# Altium integrated library NSC Amplifier.IntLib: 1615 symbols (part 6 of 44)
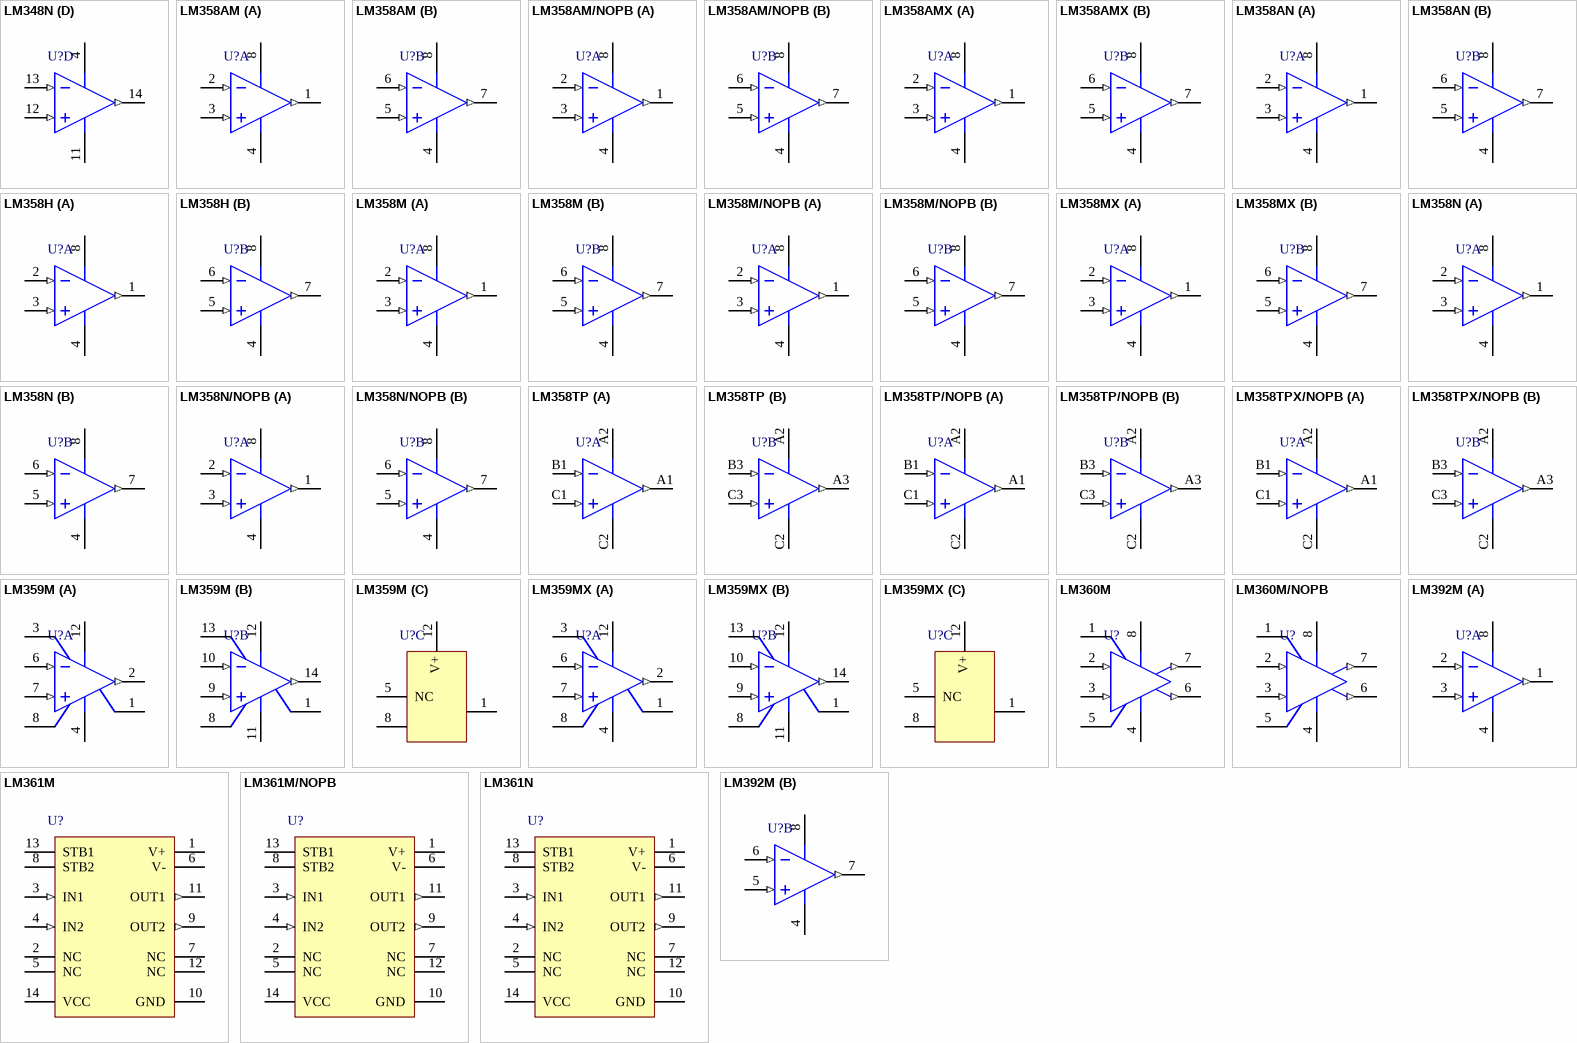
[diagram p87: symbols LM348N to LM392M]

## LM358AM/NOPB
designator U?
Low Power Dual Operational Amplifier, 8-pin Narrow SOIC, Pb-Free; PartNumber: LM358AM/NOPB; Manufacturer: National Semiconductor; PackageTopMarking: NSZXTT*LM*358AM; PowerWise: N; CompType: Amplifiers; Published: 1-Mar-2010; DatasheetVersion: Oct-2005; PackageVersion: revM, May-2009; PackageReference: M08A; Publisher: Altium Limited; PackageDescription: SOIC Narrow, 4.9 x 3.9 x 1.45mm, 8 Lead, 1.27mm Pitch; Supplier 1: Digi-Key; Supplier Part Number 1: LM358AMNS-ND; Supplier 2: Farnell; Supplier Part Number 2: 1202979; RoHS: Y; PinCount: 8; Code_JEDEC: MS-012-AA; Code_IPC: SOIC127P600-8; ComponentLink1Description: LM358 Datasheet; ComponentLink1URL: http://www.national.com/ds/LM/LM358.pdf; ComponentLink2Description: LM358 Web Page; ComponentLink2URL: http://www.national.com/pf/LM/LM358.html; ComponentLink3Description: M08A Package Page; ComponentLink3URL: http://www.national.com/packaging/folders/m08a.html
footprint M08A_N (SOIC, 8-Leads, Body 4.9x3.9mm, Pitch 1.27mm, IPC Medium Density)
footprint M08A_L (SOIC, 8-Leads, Body 4.9x3.9mm, Pitch 1.27mm, IPC High Density)
footprint M08A_M (SOIC, 8-Leads, Body 4.9x3.9mm, Pitch 1.27mm, IPC Low Density)
simulation model LM358 (SUBCKT)
pins on every part: 4 GND (power), 8 V+ (power)
part A pins: 1 OUTA (out), 2 INA- (in), 3 INA+ (in)
part B pins: 5 INB+ (in), 6 INB- (in), 7 OUTB (out)

## LM358AMX
designator U?
Low Power Dual Operational Amplifier, 8-pin Narrow SOIC; PartNumber: LM358AMX; Manufacturer: National Semiconductor; PackageTopMarking: NSZXTT*LM*358AM; PowerWise: N; CompType: Amplifiers; Published: 1-Mar-2010; DatasheetVersion: Oct-2005; PackageVersion: revM, May-2009; PackageReference: M08A; Publisher: Altium Limited; PackageDescription: SOIC Narrow, 4.9 x 3.9 x 1.45mm, 8 Lead, 1.27mm Pitch; RoHS: N; PinCount: 8; Code_JEDEC: MS-012-AA; Code_IPC: SOIC127P600-8; ComponentLink1Description: LM358 Datasheet; ComponentLink1URL: http://www.national.com/ds/LM/LM358.pdf; ComponentLink2Description: LM358 Web Page; ComponentLink2URL: http://www.national.com/pf/LM/LM358.html; ComponentLink3Description: M08A Package Page; ComponentLink3URL: http://www.national.com/packaging/folders/m08a.html
footprint M08A_N (SOIC, 8-Leads, Body 4.9x3.9mm, Pitch 1.27mm, IPC Medium Density)
footprint M08A_L (SOIC, 8-Leads, Body 4.9x3.9mm, Pitch 1.27mm, IPC High Density)
footprint M08A_M (SOIC, 8-Leads, Body 4.9x3.9mm, Pitch 1.27mm, IPC Low Density)
simulation model LM358 (SUBCKT)
pins on every part: 4 GND (power), 8 V+ (power)
part A pins: 1 OUTA (out), 2 INA- (in), 3 INA+ (in)
part B pins: 5 INB+ (in), 6 INB- (in), 7 OUTB (out)

## LM358AN
designator U?
Low Power Dual Operational Amplifier, 8-pin MDIP; PartNumber: LM358AN; Manufacturer: National Semiconductor; PackageTopMarking: NSUZXYTTE#*LM*358AN; PowerWise: N; CompType: Amplifiers; Published: 4-Dec-2008; LatestRevisionDate: 13-Jan-2009; LatestRevisionNote: Sim Model Added.; DatasheetVersion: Oct-2005; PackageVersion: revG, May-2006; PackageReference: N08E; Publisher: Altium Limited; PackageDescription: MDIP, .365 x .250 x .130in, 8 Lead, .100in Pitch; Supplier 1: Farnell; Supplier Part Number 1: 9486810; RoHS: N; PinCount: 8; Code_JEDEC: MS-001-BA; ComponentLink1Description: LM358 Datasheet; ComponentLink1URL: http://www.national.com/ds/LM/LM358.pdf; ComponentLink2Description: LM358 Web Page; ComponentLink2URL: http://www.national.com/pf/LM/LM358.html; ComponentLink3Description: N08E Package Page; ComponentLink3URL: http://www.national.com/packaging/folders/n08e.html
footprint N08E (DIP, 8-Leads, Row Spacing 7.62mm, Pitch 2.54mm, Body 9.91x6.35mm)
simulation model LM358 (SUBCKT)
pins on every part: 4 GND (power), 8 V+ (power)
part A pins: 1 OUTA (out), 2 INA- (in), 3 INA+ (in)
part B pins: 5 INB+ (in), 6 INB- (in), 7 OUTB (out)

## LM358H
designator U?
Low Power Dual Operational Amplifier, 8-pin TO-99; PartNumber: LM358H; Manufacturer: National Semiconductor; PackageTopMarking: NSZXYTTE# LM358H; PowerWise: N; CompType: Amplifiers; High-Reliability: Y; Published: 4-Dec-2008; DatasheetVersion: Oct-2005; PackageVersion: revF, Jun-1995; PackageReference: H08C; Publisher: Altium Limited; PackageDescription: Metal Can, TO-99, 8 Lead, .200 Dia., P.C.; Supplier 1: Farnell; Supplier Part Number 1: 399553; RoHS: N; PinCount: 8; Code_JEDEC: TO-99; ComponentLink1Description: LM358 Datasheet; ComponentLink1URL: http://www.national.com/ds/LM/LM358.pdf; ComponentLink2Description: LM358 Web Page; ComponentLink2URL: http://www.national.com/pf/LM/LM358.html; ComponentLink3Description: H08C Package Page; ComponentLink3URL: http://www.national.com/packaging/folders/h08c.html
footprint H08C (Can; 8 Leads; Pin Circle Dia. 5.08 mm; Lead Dia. 0.48 mm (max))
simulation model LM358 (SUBCKT)
pins on every part: 4 GND (power), 8 V+ (power)
part A pins: 1 OUTA (out), 2 INA- (in), 3 INA+ (in)
part B pins: 5 INB+ (in), 6 INB- (in), 7 OUTB (out)

## LM358M
designator U?
Low Power Dual Operational Amplifier, 8-pin Narrow SOIC; PartNumber: LM358M; Manufacturer: National Semiconductor; PackageTopMarking: NSZXTT*LM*358M; PowerWise: N; CompType: Amplifiers; Published: 4-Dec-2008; LatestRevisionDate: 13-Jan-2009; LatestRevisionNote: Sim Model Added.; DatasheetVersion: Oct-2005; PackageVersion: revM, May-2009; PackageReference: M08A; Publisher: Altium Limited; PackageDescription: SOIC Narrow, 4.9 x 3.9 x 1.45mm, 8 Lead, 1.27mm Pitch; Supplier 1: Farnell; Supplier Part Number 1: 9486828; RoHS: N; PinCount: 8; Code_JEDEC: MS-012-AA; Code_IPC: SOIC127P600-8; ComponentLink1Description: LM358 Datasheet; ComponentLink1URL: http://www.national.com/ds/LM/LM358.pdf; ComponentLink2Description: LM358 Web Page; ComponentLink2URL: http://www.national.com/pf/LM/LM358.html; ComponentLink3Description: M08A Package Page; ComponentLink3URL: http://www.national.com/packaging/folders/m08a.html
footprint M08A_N (SOIC, 8-Leads, Body 4.9x3.9mm, Pitch 1.27mm, IPC Medium Density)
footprint M08A_L (SOIC, 8-Leads, Body 4.9x3.9mm, Pitch 1.27mm, IPC High Density)
footprint M08A_M (SOIC, 8-Leads, Body 4.9x3.9mm, Pitch 1.27mm, IPC Low Density)
simulation model LM358 (SUBCKT)
pins on every part: 4 GND (power), 8 V+ (power)
part A pins: 1 OUTA (out), 2 INA- (in), 3 INA+ (in)
part B pins: 5 INB+ (in), 6 INB- (in), 7 OUTB (out)

## LM358M/NOPB
designator U?
Low Power Dual Operational Amplifier, 8-pin Narrow SOIC, Pb-Free; PartNumber: LM358M/NOPB; Manufacturer: National Semiconductor; PackageTopMarking: NSZXTT*LM*358M; PowerWise: N; CompType: Amplifiers; Published: 1-Mar-2010; DatasheetVersion: Oct-2005; PackageVersion: revM, May-2009; PackageReference: M08A; Publisher: Altium Limited; PackageDescription: SOIC Narrow, 4.9 x 3.9 x 1.45mm, 8 Lead, 1.27mm Pitch; Supplier 1: Digi-Key; Supplier Part Number 1: LM358MNS-ND; Supplier 2: Farnell; Supplier Part Number 2: 1468920; RoHS: Y; PinCount: 8; Code_JEDEC: MS-012-AA; Code_IPC: SOIC127P600-8; ComponentLink1Description: LM358 Datasheet; ComponentLink1URL: http://www.national.com/ds/LM/LM358.pdf; ComponentLink2Description: LM358 Web Page; ComponentLink2URL: http://www.national.com/pf/LM/LM358.html; ComponentLink3Description: M08A Package Page; ComponentLink3URL: http://www.national.com/packaging/folders/m08a.html
footprint M08A_N (SOIC, 8-Leads, Body 4.9x3.9mm, Pitch 1.27mm, IPC Medium Density)
footprint M08A_L (SOIC, 8-Leads, Body 4.9x3.9mm, Pitch 1.27mm, IPC High Density)
footprint M08A_M (SOIC, 8-Leads, Body 4.9x3.9mm, Pitch 1.27mm, IPC Low Density)
simulation model LM358 (SUBCKT)
pins on every part: 4 GND (power), 8 V+ (power)
part A pins: 1 OUTA (out), 2 INA- (in), 3 INA+ (in)
part B pins: 5 INB+ (in), 6 INB- (in), 7 OUTB (out)

## LM358MX
designator U?
Low Power Dual Operational Amplifier, 8-pin Narrow SOIC; PartNumber: LM358MX; Manufacturer: National Semiconductor; PackageTopMarking: NSZXTT*LM*358M; PowerWise: N; CompType: Amplifiers; Published: 1-Mar-2010; DatasheetVersion: Oct-2005; PackageVersion: revM, May-2009; PackageReference: M08A; Publisher: Altium Limited; PackageDescription: SOIC Narrow, 4.9 x 3.9 x 1.45mm, 8 Lead, 1.27mm Pitch; RoHS: N; PinCount: 8; Code_JEDEC: MS-012-AA; Code_IPC: SOIC127P600-8; ComponentLink1Description: LM358 Datasheet; ComponentLink1URL: http://www.national.com/ds/LM/LM358.pdf; ComponentLink2Description: LM358 Web Page; ComponentLink2URL: http://www.national.com/pf/LM/LM358.html; ComponentLink3Description: M08A Package Page; ComponentLink3URL: http://www.national.com/packaging/folders/m08a.html
footprint M08A_N (SOIC, 8-Leads, Body 4.9x3.9mm, Pitch 1.27mm, IPC Medium Density)
footprint M08A_L (SOIC, 8-Leads, Body 4.9x3.9mm, Pitch 1.27mm, IPC High Density)
footprint M08A_M (SOIC, 8-Leads, Body 4.9x3.9mm, Pitch 1.27mm, IPC Low Density)
simulation model LM358 (SUBCKT)
pins on every part: 4 GND (power), 8 V+ (power)
part A pins: 1 OUTA (out), 2 INA- (in), 3 INA+ (in)
part B pins: 5 INB+ (in), 6 INB- (in), 7 OUTB (out)

## LM358N
designator U?
Low Power Dual Operational Amplifier, 8-pin MDIP; PartNumber: LM358N; Manufacturer: National Semiconductor; PackageTopMarking: NSUZXYTTE#*LM*358N; PowerWise: N; CompType: Amplifiers; Published: 4-Dec-2008; LatestRevisionDate: 13-Jan-2009; LatestRevisionNote: Sim Model Added.; DatasheetVersion: Oct-2005; PackageVersion: revG, May-2006; PackageReference: N08E; Publisher: Altium Limited; PackageDescription: MDIP, .365 x .250 x .130in, 8 Lead, .100in Pitch; Supplier 1: Farnell; Supplier Part Number 1: 9486836; Supplier 2: Farnell; Supplier Part Number 2: 1523834; RoHS: N; PinCount: 8; Code_JEDEC: MS-001-BA; ComponentLink1Description: LM358 Datasheet; ComponentLink1URL: http://www.national.com/ds/LM/LM358.pdf; ComponentLink2Description: LM358 Web Page; ComponentLink2URL: http://www.national.com/pf/LM/LM358.html; ComponentLink3Description: N08E Package Page; ComponentLink3URL: http://www.national.com/packaging/folders/n08e.html
footprint N08E (DIP, 8-Leads, Row Spacing 7.62mm, Pitch 2.54mm, Body 9.91x6.35mm)
simulation model LM358 (SUBCKT)
pins on every part: 4 GND (power), 8 V+ (power)
part A pins: 1 OUTA (out), 2 INA- (in), 3 INA+ (in)
part B pins: 5 INB+ (in), 6 INB- (in), 7 OUTB (out)

## LM358N/NOPB
designator U?
Low Power Dual Operational Amplifier, 8-pin MDIP, Pb-Free; PartNumber: LM358N/NOPB; Manufacturer: National Semiconductor; PackageTopMarking: NSUZXYTTE#*LM*358N; PowerWise: N; CompType: Amplifiers; Published: 1-Mar-2010; DatasheetVersion: Oct-2005; PackageVersion: revG, May-2006; PackageReference: N08E; Publisher: Altium Limited; PackageDescription: MDIP, .365 x .250 x .130in, 8 Lead, .100in Pitch; Supplier 1: Digi-Key; Supplier Part Number 1: LM358NNS-ND; Supplier 2: Farnell; Supplier Part Number 2: 1468921; RoHS: Y; PinCount: 8; Code_JEDEC: MS-001-BA; ComponentLink1Description: LM358 Datasheet; ComponentLink1URL: http://www.national.com/ds/LM/LM358.pdf; ComponentLink2Description: LM358 Web Page; ComponentLink2URL: http://www.national.com/pf/LM/LM358.html; ComponentLink3Description: N08E Package Page; ComponentLink3URL: http://www.national.com/packaging/folders/n08e.html
footprint N08E (DIP, 8-Leads, Row Spacing 7.62mm, Pitch 2.54mm, Body 9.91x6.35mm)
simulation model LM358 (SUBCKT)
pins on every part: 4 GND (power), 8 V+ (power)
part A pins: 1 OUTA (out), 2 INA- (in), 3 INA+ (in)
part B pins: 5 INB+ (in), 6 INB- (in), 7 OUTB (out)

## LM358TP
designator U?
Low Power Dual Operational Amplifier, 8-pin Micro SMD; PartNumber: LM358TP; Manufacturer: National Semiconductor; PackageTopMarking: XVA*I 07; PowerWise: N; CompType: Amplifiers; Published: 4-Dec-2008; LatestRevisionDate: 13-Jan-2009; LatestRevisionNote: Sim Model Added.; DatasheetVersion: Oct-2005; PackageVersion: revA, Mar-2002; PackageReference: TPA08AAA; Publisher: Altium Limited; PackageDescription: Thin Micro SMD, 8 Bump, 0.5mm Pitch; Supplier 1: Farnell; Supplier Part Number 1: 8238650; RoHS: Y; PinCount: 8; Code_JEDEC: MO-211-BC; ComponentLink1Description: LM358 Datasheet; ComponentLink1URL: http://www.national.com/ds/LM/LM358.pdf; ComponentLink2Description: LM358 Web Page; ComponentLink2URL: http://www.national.com/pf/LM/LM358.html; ComponentLink3Description: TPA08AAA Package Page; ComponentLink3URL: http://www.national.com/packaging/folders/tpa08aaa.html
footprint TPA08AAA (Micro SMD, 8-Leads, Body 1.29x1.29mm, Pitch 0.5mm, NSC Recommended)
simulation model LM358 (SUBCKT)
pins on every part: A2 V+ (power), C2 GND (power)
part A pins: A1 OUTA (out), B1 INA- (in), C1 INA+ (in)
part B pins: A3 OUTB (out), B3 INB- (in), C3 INB+ (in)

## LM358TP/NOPB
designator U?
Low Power Dual Operational Amplifier, 8-pin Micro SMD, Pb-Free; PartNumber: LM358TP/NOPB; Manufacturer: National Semiconductor; PackageTopMarking: XVA*I 07; PowerWise: N; CompType: Amplifiers; Published: 1-Mar-2010; DatasheetVersion: Oct-2005; PackageVersion: revA, Mar-2002; PackageReference: TPA08AAA; Publisher: Altium Limited; PackageDescription: Thin Micro SMD, 8 Bump, 0.5mm Pitch; Supplier 1: Digi-Key; Supplier Part Number 1: LM358TP-ND; RoHS: Y; PinCount: 8; Code_JEDEC: MO-211-BC; ComponentLink1Description: LM358 Datasheet; ComponentLink1URL: http://www.national.com/ds/LM/LM358.pdf; ComponentLink2Description: LM358 Web Page; ComponentLink2URL: http://www.national.com/pf/LM/LM358.html; ComponentLink3Description: TPA08AAA Package Page; ComponentLink3URL: http://www.national.com/packaging/folders/tpa08aaa.html
footprint TPA08AAA (Micro SMD, 8-Leads, Body 1.29x1.29mm, Pitch 0.5mm, NSC Recommended)
simulation model LM358 (SUBCKT)
pins on every part: A2 V+ (power), C2 GND (power)
part A pins: A1 OUTA (out), B1 INA- (in), C1 INA+ (in)
part B pins: A3 OUTB (out), B3 INB- (in), C3 INB+ (in)

## LM358TPX/NOPB
designator U?
Low Power Dual Operational Amplifier, 8-pin Micro SMD, Pb-Free; PartNumber: LM358TPX/NOPB; Manufacturer: National Semiconductor; PackageTopMarking: XVA*I 07; PowerWise: N; CompType: Amplifiers; Published: 1-Mar-2010; DatasheetVersion: Oct-2005; PackageVersion: revA, Mar-2002; PackageReference: TPA08AAA; Publisher: Altium Limited; PackageDescription: Thin Micro SMD, 8 Bump, 0.5mm Pitch; Supplier 1: Digi-Key; Supplier Part Number 1: LM358TPX-ND; RoHS: Y; PinCount: 8; Code_JEDEC: MO-211-BC; ComponentLink1Description: LM358 Datasheet; ComponentLink1URL: http://www.national.com/ds/LM/LM358.pdf; ComponentLink2Description: LM358 Web Page; ComponentLink2URL: http://www.national.com/pf/LM/LM358.html; ComponentLink3Description: TPA08AAA Package Page; ComponentLink3URL: http://www.national.com/packaging/folders/tpa08aaa.html
footprint TPA08AAA (Micro SMD, 8-Leads, Body 1.29x1.29mm, Pitch 0.5mm, NSC Recommended)
simulation model LM358 (SUBCKT)
pins on every part: A2 V+ (power), C2 GND (power)
part A pins: A1 OUTA (out), B1 INA- (in), C1 INA+ (in)
part B pins: A3 OUTB (out), B3 INB- (in), C3 INB+ (in)

## LM359M
designator U?
Dual, High Speed, Programmable, Current Mode (Norton) Amplifiers, 14-pin Narrow SOIC; PartNumber: LM359M; Manufacturer: National Semiconductor; PackageTopMarking: NSUZXYTTE#*LM359M; PowerWise: Y; Published: 4-Dec-2008; LatestRevisionDate: 13-Jan-2009; LatestRevisionNote: Sim Model Added.; DatasheetVersion: Aug-2000; PackageVersion: revJ, Jan-1996; PackageReference: M14A; Publisher: Altium Limited; PackageDescription: Molded Package S.O., .150in Wide, 14 Lead; Supplier 1: Digi-Key; Supplier Part Number 1: LM359M-ND; Supplier 2: Farnell; Supplier Part Number 2: 953787; RoHS: N; PinCount: 14; CompType: Amplifiers; Code_JEDEC: MS-012AB; Code_IPC: SOIC127P600-14; ComponentLink1Description: LM359 Datasheet; ComponentLink1URL: http://www.national.com/ds/LM/LM359.pdf; ComponentLink2Description: LM359 Web Page; ComponentLink2URL: http://www.national.com/pf/LM/LM359.html; ComponentLink3Description: M14A Package Page; ComponentLink3URL: http://www.national.com/packaging/folders/m14a.html
footprint M14A_N (SOIC, 14-Leads, Body 8.6x3.9mm, Pitch 1.27mm, IPC Medium Density)
footprint M14A_L (SOIC, 14-Leads, Body 8.6x3.9mm, Pitch 1.27mm, IPC High Density)
footprint M14A_M (SOIC, 14-Leads, Body 8.6x3.9mm, Pitch 1.27mm, IPC Low Density)
simulation model LM359 (SUBCKT)
pins on every part: 1 ISET(OUT), 8 ISET(IN), 12 V+ (power)
part A pins: 2 OUTA (out), 3 COMPA, 4 GNDA (power), 6 INA- (in), 7 INA+ (in)
part B pins: 9 INB+ (in), 10 INB- (in), 11 GNDB (power), 13 COMPB, 14 OUTB (out)
part C pins: 5 NC

## LM359MX
designator U?
Dual, High Speed, Programmable, Current Mode (Norton) Amplifiers, 14-pin Narrow SOIC; PartNumber: LM359MX; Manufacturer: National Semiconductor; PackageTopMarking: NSUZXYTTE#*LM359M; PowerWise: Y; Published: 1-Mar-2010; DatasheetVersion: Aug-2000; PackageVersion: revJ, Jan-1996; PackageReference: M14A; Publisher: Altium Limited; PackageDescription: Molded Package S.O., .150in Wide, 14 Lead; Supplier 1: Digi-Key; Supplier Part Number 1: LM359MX-ND; RoHS: N; PinCount: 14; CompType: Amplifiers; Code_JEDEC: MS-012AB; Code_IPC: SOIC127P600-14; ComponentLink1Description: LM359 Datasheet; ComponentLink1URL: http://www.national.com/ds/LM/LM359.pdf; ComponentLink2Description: LM359 Web Page; ComponentLink2URL: http://www.national.com/pf/LM/LM359.html; ComponentLink3Description: M14A Package Page; ComponentLink3URL: http://www.national.com/packaging/folders/m14a.html
footprint M14A_N (SOIC, 14-Leads, Body 8.6x3.9mm, Pitch 1.27mm, IPC Medium Density)
footprint M14A_L (SOIC, 14-Leads, Body 8.6x3.9mm, Pitch 1.27mm, IPC High Density)
footprint M14A_M (SOIC, 14-Leads, Body 8.6x3.9mm, Pitch 1.27mm, IPC Low Density)
simulation model LM359 (SUBCKT)
pins on every part: 1 ISET(OUT), 8 ISET(IN), 12 V+ (power)
part A pins: 2 OUTA (out), 3 COMPA, 4 GNDA (power), 6 INA- (in), 7 INA+ (in)
part B pins: 9 INB+ (in), 10 INB- (in), 11 GNDB (power), 13 COMPB, 14 OUTB (out)
part C pins: 5 NC

## LM360M
designator U?
High Speed Differential Comparator, 8-pin Narrow SOIC; PartNumber: LM360M; Manufacturer: National Semiconductor; PackageTopMarking: NSZXTT*LM*360M; PowerWise: N; CompType: Amplifiers; Published: 4-Dec-2008; DatasheetVersion: Aug-2000; PackageVersion: revM, May-2009; PackageReference: M08A; Publisher: Altium Limited; PackageDescription: SOIC Narrow, 4.9 x 3.9 x 1.45mm, 8 Lead, 1.27mm Pitch; Supplier 1: Farnell; Supplier Part Number 1: 953805; RoHS: N; PinCount: 8; Code_JEDEC: MS-012-AA; Code_IPC: SOIC127P600-8; ComponentLink1Description: LM360 Datasheet; ComponentLink1URL: http://www.national.com/ds/LM/LM360.pdf; ComponentLink2Description: LM360 Web Page; ComponentLink2URL: http://www.national.com/pf/LM/LM360.html; ComponentLink3Description: M08A Package Page; ComponentLink3URL: http://www.national.com/packaging/folders/m08a.html
footprint M08A_N (SOIC, 8-Leads, Body 4.9x3.9mm, Pitch 1.27mm, IPC Medium Density)
footprint M08A_L (SOIC, 8-Leads, Body 4.9x3.9mm, Pitch 1.27mm, IPC High Density)
footprint M08A_M (SOIC, 8-Leads, Body 4.9x3.9mm, Pitch 1.27mm, IPC Low Density)
pins: 1 NC, 2 IN2 (in), 3 IN1 (in), 4 V- (power), 5 GND (power), 6 OUT2 (out), 7 OUT1 (out), 8 V+ (power)

## LM360M/NOPB
designator U?
High Speed Differential Comparator, 8-pin Narrow SOIC, Pb-Free; PartNumber: LM360M/NOPB; Manufacturer: National Semiconductor; PackageTopMarking: NSZXTT*LM*360M; PowerWise: N; CompType: Amplifiers; Published: 1-Mar-2010; DatasheetVersion: Aug-2000; PackageVersion: revM, May-2009; PackageReference: M08A; Publisher: Altium Limited; PackageDescription: SOIC Narrow, 4.9 x 3.9 x 1.45mm, 8 Lead, 1.27mm Pitch; Supplier 1: Digi-Key; Supplier Part Number 1: LM360M-ND; Supplier 2: Farnell; Supplier Part Number 2: 1685339; RoHS: Y; PinCount: 8; Code_JEDEC: MS-012-AA; Code_IPC: SOIC127P600-8; ComponentLink1Description: LM360 Datasheet; ComponentLink1URL: http://www.national.com/ds/LM/LM360.pdf; ComponentLink2Description: LM360 Web Page; ComponentLink2URL: http://www.national.com/pf/LM/LM360.html; ComponentLink3Description: M08A Package Page; ComponentLink3URL: http://www.national.com/packaging/folders/m08a.html
footprint M08A_N (SOIC, 8-Leads, Body 4.9x3.9mm, Pitch 1.27mm, IPC Medium Density)
footprint M08A_L (SOIC, 8-Leads, Body 4.9x3.9mm, Pitch 1.27mm, IPC High Density)
footprint M08A_M (SOIC, 8-Leads, Body 4.9x3.9mm, Pitch 1.27mm, IPC Low Density)
pins: 1 NC, 2 IN2 (in), 3 IN1 (in), 4 V- (power), 5 GND (power), 6 OUT2 (out), 7 OUT1 (out), 8 V+ (power)

## LM361M
designator U?
High Speed Differential Comparator, 14-pin Narrow SOIC; PartNumber: LM361M; Manufacturer: National Semiconductor; PackageTopMarking: NSUZXYTTE#*LM361M; PowerWise: N; CompType: Amplifiers; Published: 4-Dec-2008; DatasheetVersion: Aug-2000; PackageVersion: revJ, Jan-1996; PackageReference: M14A; Publisher: Altium Limited; PackageDescription: Molded Package S.O., .150in Wide, 14 Lead; Supplier 1: Digi-Key; Supplier Part Number 1: LM361M-ND; Supplier 2: Farnell; Supplier Part Number 2: 6380414; RoHS: N; PinCount: 14; Code_JEDEC: MS-012AB; Code_IPC: SOIC127P600-14; ComponentLink1Description: LM361 Datasheet; ComponentLink1URL: http://www.national.com/ds/LM/LM361.pdf; ComponentLink2Description: LM361 Web Page; ComponentLink2URL: http://www.national.com/pf/LM/LM361.html; ComponentLink3Description: M14A Package Page; ComponentLink3URL: http://www.national.com/packaging/folders/m14a.html
footprint M14A_N (SOIC, 14-Leads, Body 8.6x3.9mm, Pitch 1.27mm, IPC Medium Density)
footprint M14A_L (SOIC, 14-Leads, Body 8.6x3.9mm, Pitch 1.27mm, IPC High Density)
footprint M14A_M (SOIC, 14-Leads, Body 8.6x3.9mm, Pitch 1.27mm, IPC Low Density)
pins: 1 V+ (power), 2 NC, 3 IN1 (in), 4 IN2 (in), 5 NC, 6 V- (power), 7 NC, 8 STB2 (power), 9 OUT2 (out), 10 GND (power), 11 OUT1 (out), 12 NC, 13 STB1 (power), 14 VCC (power)

## LM361M/NOPB
designator U?
High Speed Differential Comparator, 14-pin Narrow SOIC, Pb-Free; PartNumber: LM361M/NOPB; Manufacturer: National Semiconductor; PackageTopMarking: NSUZXYTTE#*LM361M; PowerWise: N; CompType: Amplifiers; Published: 1-Mar-2010; DatasheetVersion: Aug-2000; PackageVersion: revJ, Jan-1996; PackageReference: M14A; Publisher: Altium Limited; PackageDescription: Molded Package S.O., .150in Wide, 14 Lead; Supplier 1: Digi-Key; Supplier Part Number 1: LM361M/NOPB-ND; Supplier 2: Farnell; Supplier Part Number 2: 1468957; RoHS: Y; PinCount: 14; Code_JEDEC: MS-012AB; Code_IPC: SOIC127P600-14; ComponentLink1Description: LM361 Datasheet; ComponentLink1URL: http://www.national.com/ds/LM/LM361.pdf; ComponentLink2Description: LM361 Web Page; ComponentLink2URL: http://www.national.com/pf/LM/LM361.html; ComponentLink3Description: M14A Package Page; ComponentLink3URL: http://www.national.com/packaging/folders/m14a.html
footprint M14A_N (SOIC, 14-Leads, Body 8.6x3.9mm, Pitch 1.27mm, IPC Medium Density)
footprint M14A_L (SOIC, 14-Leads, Body 8.6x3.9mm, Pitch 1.27mm, IPC High Density)
footprint M14A_M (SOIC, 14-Leads, Body 8.6x3.9mm, Pitch 1.27mm, IPC Low Density)
pins: 1 V+ (power), 2 NC, 3 IN1 (in), 4 IN2 (in), 5 NC, 6 V- (power), 7 NC, 8 STB2 (power), 9 OUT2 (out), 10 GND (power), 11 OUT1 (out), 12 NC, 13 STB1 (power), 14 VCC (power)

## LM361N
designator U?
High Speed Differential Comparator, 14-pin MDIP; PartNumber: LM361N; Manufacturer: National Semiconductor; PackageTopMarking: NSUZXYYTTE#*LM361N; PowerWise: N; CompType: Amplifiers; Published: 4-Dec-2008; DatasheetVersion: Aug-2000; PackageVersion: revG, May-2006; PackageReference: N14A; Publisher: Altium Limited; PackageDescription: MDIP, .750 x .250 x.130in, 14 Lead, .100in Pitch; Supplier 1: Farnell; Supplier Part Number 1: 9487573; RoHS: N; PinCount: 14; Code_JEDEC: MS-001-AA; ComponentLink1Description: LM361 Datasheet; ComponentLink1URL: http://www.national.com/ds/LM/LM361.pdf; ComponentLink2Description: LM361 Web Page; ComponentLink2URL: http://www.national.com/pf/LM/LM361.html; ComponentLink3Description: N14A Package Page; ComponentLink3URL: http://www.national.com/packaging/folders/n14a.html
footprint N14A (DIP, 14-Leads, Row Spacing 7.62mm, Pitch 2.54mm, Body 19.56x6.35mm)
pins: 1 V+ (power), 2 NC, 3 IN1 (in), 4 IN2 (in), 5 NC, 6 V- (power), 7 NC, 8 STB2 (power), 9 OUT2 (out), 10 GND (power), 11 OUT1 (out), 12 NC, 13 STB1 (power), 14 VCC (power)

## LM392M
designator U?
Low Power Operational Amplifier/Voltage Comparator, 8-pin Narrow SOIC; PartNumber: LM392M; Manufacturer: National Semiconductor; PackageTopMarking: NSZXTT*LM392*M; PowerWise: N; CompType: Amplifiers; Published: 4-Dec-2008; LatestRevisionDate: 13-Jan-2009; LatestRevisionNote: Sim Model Added.; DatasheetVersion: Aug-2000; PackageVersion: revM, May-2009; PackageReference: M08A; Publisher: Altium Limited; PackageDescription: SOIC Narrow, 4.9 x 3.9 x 1.45mm, 8 Lead, 1.27mm Pitch; Supplier 1: Digi-Key; Supplier Part Number 1: LM392M-ND; Supplier 2: Farnell; Supplier Part Number 2: 9486755; RoHS: N; PinCount: 8; Code_JEDEC: MS-012-AA; Code_IPC: SOIC127P600-8; ComponentLink1Description: LM392 Datasheet; ComponentLink1URL: http://www.national.com/ds/LM/LM392.pdf; ComponentLink2Description: LM392 Web Page; ComponentLink2URL: http://www.national.com/pf/LM/LM392.html; ComponentLink3Description: M08A Package Page; ComponentLink3URL: http://www.national.com/packaging/folders/m08a.html
footprint M08A_N (SOIC, 8-Leads, Body 4.9x3.9mm, Pitch 1.27mm, IPC Medium Density)
footprint M08A_L (SOIC, 8-Leads, Body 4.9x3.9mm, Pitch 1.27mm, IPC High Density)
footprint M08A_M (SOIC, 8-Leads, Body 4.9x3.9mm, Pitch 1.27mm, IPC Low Density)
simulation model LM324 (SUBCKT)
pins on every part: 4 GND (power), 8 V+ (power)
part A pins: 1 OUTA (out), 2 INA- (in), 3 INA+ (in)
part B pins: 5 INB+ (in), 6 INB- (in), 7 OUTB (out)

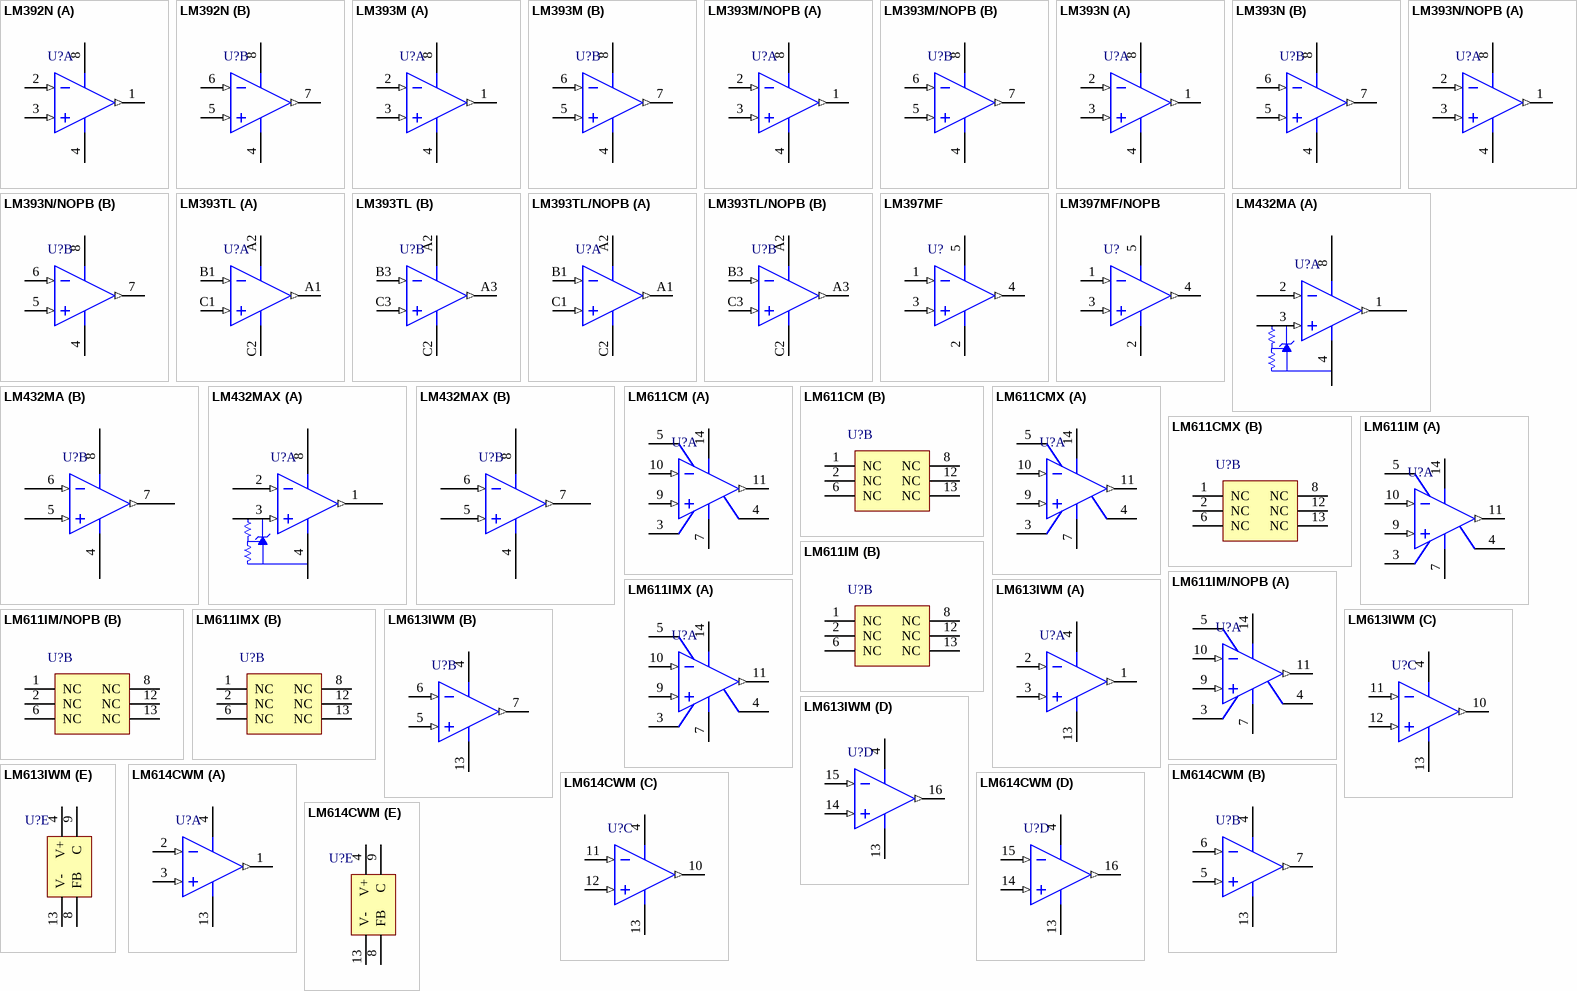
[diagram p14: symbols LM392N to LM614CWM]

## LM392N
designator U?
Low Power Operational Amplifier/Voltage Comparator, 8-pin MDIP; PartNumber: LM392N; Manufacturer: National Semiconductor; PackageTopMarking: NSUZXYTTE#*LM*392N; PowerWise: N; CompType: Amplifiers; Published: 4-Dec-2008; LatestRevisionDate: 13-Jan-2009; LatestRevisionNote: Sim Model Added.; DatasheetVersion: Aug-2000; PackageVersion: revG, May-2006; PackageReference: N08E; Publisher: Altium Limited; PackageDescription: MDIP, .365 x .250 x .130in, 8 Lead, .100in Pitch; Supplier 1: Farnell; Supplier Part Number 1: 9486763; RoHS: N; PinCount: 8; Code_JEDEC: MS-001-BA; ComponentLink1Description: LM392 Datasheet; ComponentLink1URL: http://www.national.com/ds/LM/LM392.pdf; ComponentLink2Description: LM392 Web Page; ComponentLink2URL: http://www.national.com/pf/LM/LM392.html; ComponentLink3Description: N08E Package Page; ComponentLink3URL: http://www.national.com/packaging/folders/n08e.html
footprint N08E (DIP, 8-Leads, Row Spacing 7.62mm, Pitch 2.54mm, Body 9.91x6.35mm)
simulation model LM324 (SUBCKT)
pins on every part: 4 GND (power), 8 V+ (power)
part A pins: 1 OUTA (out), 2 INA- (in), 3 INA+ (in)
part B pins: 5 INB+ (in), 6 INB- (in), 7 OUTB (out)

## LM393M
designator U?
Low Power Low Offset Voltage Dual Comparator, 8-pin Narrow SOIC; PartNumber: LM393M; Manufacturer: National Semiconductor; PackageTopMarking: NSZXTT*LM*393M; PowerWise: N; CompType: Amplifiers; Published: 4-Dec-2008; DatasheetVersion: Aug-2002; PackageVersion: revM, May-2009; PackageReference: M08A; Publisher: Altium Limited; PackageDescription: SOIC Narrow, 4.9 x 3.9 x 1.45mm, 8 Lead, 1.27mm Pitch; Supplier 1: Farnell; Supplier Part Number 1: 9487590; RoHS: N; PinCount: 8; Code_JEDEC: MS-012-AA; Code_IPC: SOIC127P600-8; ComponentLink1Description: LM393 Datasheet; ComponentLink1URL: http://www.national.com/ds/LM/LM393.pdf; ComponentLink2Description: LM393 Web Page; ComponentLink2URL: http://www.national.com/pf/LM/LM393.html; ComponentLink3Description: M08A Package Page; ComponentLink3URL: http://www.national.com/packaging/folders/m08a.html
footprint M08A_N (SOIC, 8-Leads, Body 4.9x3.9mm, Pitch 1.27mm, IPC Medium Density)
footprint M08A_L (SOIC, 8-Leads, Body 4.9x3.9mm, Pitch 1.27mm, IPC High Density)
footprint M08A_M (SOIC, 8-Leads, Body 4.9x3.9mm, Pitch 1.27mm, IPC Low Density)
pins on every part: 4 GND (power), 8 V+ (power)
part A pins: 1 OUTA (out), 2 INA- (in), 3 INA+ (in)
part B pins: 5 INB+ (in), 6 INB- (in), 7 OUTB (out)

## LM393M/NOPB
designator U?
Low Power Low Offset Voltage Dual Comparator, 8-pin Narrow SOIC, Pb-Free; PartNumber: LM393M/NOPB; Manufacturer: National Semiconductor; PackageTopMarking: NSZXTT*LM*393M; PowerWise: N; CompType: Amplifiers; Published: 1-Mar-2010; DatasheetVersion: Aug-2002; PackageVersion: revM, May-2009; PackageReference: M08A; Publisher: Altium Limited; PackageDescription: SOIC Narrow, 4.9 x 3.9 x 1.45mm, 8 Lead, 1.27mm Pitch; Supplier 1: Digi-Key; Supplier Part Number 1: LM393MNS-ND; Supplier 2: Farnell; Supplier Part Number 2: 1468958; RoHS: Y; PinCount: 8; Code_JEDEC: MS-012-AA; Code_IPC: SOIC127P600-8; ComponentLink1Description: LM393 Datasheet; ComponentLink1URL: http://www.national.com/ds/LM/LM393.pdf; ComponentLink2Description: LM393 Web Page; ComponentLink2URL: http://www.national.com/pf/LM/LM393.html; ComponentLink3Description: M08A Package Page; ComponentLink3URL: http://www.national.com/packaging/folders/m08a.html
footprint M08A_N (SOIC, 8-Leads, Body 4.9x3.9mm, Pitch 1.27mm, IPC Medium Density)
footprint M08A_L (SOIC, 8-Leads, Body 4.9x3.9mm, Pitch 1.27mm, IPC High Density)
footprint M08A_M (SOIC, 8-Leads, Body 4.9x3.9mm, Pitch 1.27mm, IPC Low Density)
pins on every part: 4 GND (power), 8 V+ (power)
part A pins: 1 OUTA (out), 2 INA- (in), 3 INA+ (in)
part B pins: 5 INB+ (in), 6 INB- (in), 7 OUTB (out)

## LM393N
designator U?
Low Power Low Offset Voltage Dual Comparator, 8-pin MDIP; PartNumber: LM393N; Manufacturer: National Semiconductor; PackageTopMarking: NSUZXYTTE#*LM*393N; PowerWise: N; CompType: Amplifiers; Published: 4-Dec-2008; DatasheetVersion: Aug-2002; PackageVersion: revG, May-2006; PackageReference: N08E; Publisher: Altium Limited; PackageDescription: MDIP, .365 x .250 x .130in, 8 Lead, .100in Pitch; Supplier 1: Farnell; Supplier Part Number 1: 9487611; RoHS: N; PinCount: 8; Code_JEDEC: MS-001-BA; ComponentLink1Description: LM393 Datasheet; ComponentLink1URL: http://www.national.com/ds/LM/LM393.pdf; ComponentLink2Description: LM393 Web Page; ComponentLink2URL: http://www.national.com/pf/LM/LM393.html; ComponentLink3Description: N08E Package Page; ComponentLink3URL: http://www.national.com/packaging/folders/n08e.html
footprint N08E (DIP, 8-Leads, Row Spacing 7.62mm, Pitch 2.54mm, Body 9.91x6.35mm)
pins on every part: 4 GND (power), 8 V+ (power)
part A pins: 1 OUTA (out), 2 INA- (in), 3 INA+ (in)
part B pins: 5 INB+ (in), 6 INB- (in), 7 OUTB (out)

## LM393N/NOPB
designator U?
Low Power Low Offset Voltage Dual Comparator, 8-pin MDIP, Pb-Free; PartNumber: LM393N/NOPB; Manufacturer: National Semiconductor; PackageTopMarking: NSUZXYTTE#*LM*393N; PowerWise: N; CompType: Amplifiers; Published: 1-Mar-2010; DatasheetVersion: Aug-2002; PackageVersion: revG, May-2006; PackageReference: N08E; Publisher: Altium Limited; PackageDescription: MDIP, .365 x .250 x .130in, 8 Lead, .100in Pitch; Supplier 1: Digi-Key; Supplier Part Number 1: LM393NNS-ND; Supplier 2: Farnell; Supplier Part Number 2: 1468961; RoHS: Y; PinCount: 8; Code_JEDEC: MS-001-BA; ComponentLink1Description: LM393 Datasheet; ComponentLink1URL: http://www.national.com/ds/LM/LM393.pdf; ComponentLink2Description: LM393 Web Page; ComponentLink2URL: http://www.national.com/pf/LM/LM393.html; ComponentLink3Description: N08E Package Page; ComponentLink3URL: http://www.national.com/packaging/folders/n08e.html
footprint N08E (DIP, 8-Leads, Row Spacing 7.62mm, Pitch 2.54mm, Body 9.91x6.35mm)
pins on every part: 4 GND (power), 8 V+ (power)
part A pins: 1 OUTA (out), 2 INA- (in), 3 INA+ (in)
part B pins: 5 INB+ (in), 6 INB- (in), 7 OUTB (out)

## LM393TL
designator U?
Low Power Low Offset Voltage Dual Comparator, 8-pin Micro SMD; PartNumber: LM393TL; Manufacturer: National Semiconductor; PackageTopMarking: XVC*I 02; PowerWise: N; CompType: Amplifiers; Published: 4-Dec-2008; DatasheetVersion: Aug-2002; PackageVersion: revC, Jan-2004; PackageReference: TLA08AAA; Publisher: Altium Limited; PackageDescription: Thin Micro SMD, 8 Bump (Large), 0.5mm Pitch; Supplier 1: Digi-Key; Supplier Part Number 1: LM393TL-ND; RoHS: Y; PinCount: 8; ComponentLink1Description: LM393 Datasheet; ComponentLink1URL: http://www.national.com/ds/LM/LM393.pdf; ComponentLink2Description: LM393 Web Page; ComponentLink2URL: http://www.national.com/pf/LM/LM393.html; ComponentLink3Description: TLA08AAA Package Page; ComponentLink3URL: http://www.national.com/packaging/folders/tla08aaa.html
footprint TLA08AAA (Micro SMD, 8-Leads, Body 1.52x1.52mm, Pitch 0.5mm, NSC Recommended)
pins on every part: A2 V+ (power), C2 GND (power)
part A pins: A1 OUTA (out), B1 INA- (in), C1 INA+ (in)
part B pins: A3 OUTB (out), B3 INB- (in), C3 INB+ (in)

## LM393TL/NOPB
designator U?
Low Power Low Offset Voltage Dual Comparator, 8-pin Micro SMD, Pb-Free; PartNumber: LM393TL/NOPB; Manufacturer: National Semiconductor; PackageTopMarking: XVC*I 02; PowerWise: N; CompType: Amplifiers; Published: 1-Mar-2010; DatasheetVersion: Aug-2002; PackageVersion: revC, Jan-2004; PackageReference: TLA08AAA; Publisher: Altium Limited; PackageDescription: Thin Micro SMD, 8 Bump (Large), 0.5mm Pitch; Supplier 1: Digi-Key; Supplier Part Number 1: LM393TL/NOPB-ND; RoHS: Y; PinCount: 8; ComponentLink1Description: LM393 Datasheet; ComponentLink1URL: http://www.national.com/ds/LM/LM393.pdf; ComponentLink2Description: LM393 Web Page; ComponentLink2URL: http://www.national.com/pf/LM/LM393.html; ComponentLink3Description: TLA08AAA Package Page; ComponentLink3URL: http://www.national.com/packaging/folders/tla08aaa.html
footprint TLA08AAA (Micro SMD, 8-Leads, Body 1.52x1.52mm, Pitch 0.5mm, NSC Recommended)
pins on every part: A2 V+ (power), C2 GND (power)
part A pins: A1 OUTA (out), B1 INA- (in), C1 INA+ (in)
part B pins: A3 OUTB (out), B3 INB- (in), C3 INB+ (in)

## LM397MF
designator U?
Single General Purpose Voltage Comparator, 5-pin SOT-23; PartNumber: LM397MF; Manufacturer: National Semiconductor; PackageTopMarking: C397*XTT; PowerWise: N; CompType: Amplifiers; Published: 4-Dec-2008; DatasheetVersion: Aug-2006; PackageVersion: revD, Aug-2008; PackageReference: MF05A; Publisher: Altium Limited; PackageDescription: Molded SOT-23, .115 x .063 x .040 in Body, 5 Lead, .0375 in Pitch; Supplier 1: Farnell; Supplier Part Number 1: 9779108RL; Supplier 2: Farnell; Supplier Part Number 2: 9779108; RoHS: N; PinCount: 5; ComponentLink1Description: LM397 Datasheet; ComponentLink1URL: http://www.national.com/ds/LM/LM397.pdf; ComponentLink2Description: LM397 Web Page; ComponentLink2URL: http://www.national.com/pf/LM/LM397.html; ComponentLink3Description: MF05A Package Page; ComponentLink3URL: http://www.national.com/packaging/folders/mf05a.html
footprint MF05A_N (SOT23, 5-Leads, Body 2.9x1.6mm, Pitch 0.95mm, Lead Span 2.8mm, IPC Medium Density)
footprint MF05A_L (SOT23, 5-Leads, Body 2.9x1.6mm, Pitch 0.95mm, Lead Span 2.8mm, IPC High Density)
footprint MF05A_M (SOT23, 5-Leads, Body 2.9x1.6mm, Pitch 0.95mm, Lead Span 2.8mm, IPC Low Density)
pins: 1 IN- (in), 2 GND (power), 3 IN+ (in), 4 OUT (out), 5 VS (power)

## LM397MF/NOPB
designator U?
Single General Purpose Voltage Comparator, 5-pin SOT-23, Pb-Free; PartNumber: LM397MF/NOPB; Manufacturer: National Semiconductor; PackageTopMarking: C397*XTT; PowerWise: N; CompType: Amplifiers; Published: 1-Mar-2010; DatasheetVersion: Aug-2006; PackageVersion: revD, Aug-2008; PackageReference: MF05A; Publisher: Altium Limited; PackageDescription: Molded SOT-23, .115 x .063 x .040 in Body, 5 Lead, .0375 in Pitch; Supplier 1: Digi-Key; Supplier Part Number 1: LM397MF-ND; Supplier 2: Farnell; Supplier Part Number 2: 1468962; RoHS: Y; PinCount: 5; ComponentLink1Description: LM397 Datasheet; ComponentLink1URL: http://www.national.com/ds/LM/LM397.pdf; ComponentLink2Description: LM397 Web Page; ComponentLink2URL: http://www.national.com/pf/LM/LM397.html; ComponentLink3Description: MF05A Package Page; ComponentLink3URL: http://www.national.com/packaging/folders/mf05a.html
footprint MF05A_N (SOT23, 5-Leads, Body 2.9x1.6mm, Pitch 0.95mm, Lead Span 2.8mm, IPC Medium Density)
footprint MF05A_L (SOT23, 5-Leads, Body 2.9x1.6mm, Pitch 0.95mm, Lead Span 2.8mm, IPC High Density)
footprint MF05A_M (SOT23, 5-Leads, Body 2.9x1.6mm, Pitch 0.95mm, Lead Span 2.8mm, IPC Low Density)
pins: 1 IN- (in), 2 GND (power), 3 IN+ (in), 4 OUT (out), 5 VS (power)

## LM432MA
designator U?
Dual Op Amp with On-Chip Fixed 2.5V Reference, 8-pin Narrow SOIC; PartNumber: LM432MA; Manufacturer: National Semiconductor; PackageTopMarking: NSZXTT*LM432*MA; PowerWise: Y; CompType: Amplifiers; Published: 4-Dec-2008; LatestRevisionDate: 13-Jan-2009; LatestRevisionNote: Sim Model Added.; DatasheetVersion: Jul-2001; PackageVersion: revM, May-2009; PackageReference: M08A; Publisher: Altium Limited; PackageDescription: SOIC Narrow, 4.9 x 3.9 x 1.45mm, 8 Lead, 1.27mm Pitch; Supplier 1: Farnell; Supplier Part Number 1: 9486496; RoHS: N; PinCount: 8; Code_JEDEC: MS-012-AA; Code_IPC: SOIC127P600-8; ComponentLink1Description: LM432 Datasheet; ComponentLink1URL: http://www.national.com/ds/LM/LM432.pdf; ComponentLink2Description: LM432 Web Page; ComponentLink2URL: http://www.national.com/pf/LM/LM432.html; ComponentLink3Description: M08A Package Page; ComponentLink3URL: http://www.national.com/packaging/folders/m08a.html
footprint M08A_N (SOIC, 8-Leads, Body 4.9x3.9mm, Pitch 1.27mm, IPC Medium Density)
footprint M08A_L (SOIC, 8-Leads, Body 4.9x3.9mm, Pitch 1.27mm, IPC High Density)
footprint M08A_M (SOIC, 8-Leads, Body 4.9x3.9mm, Pitch 1.27mm, IPC Low Density)
simulation model LM358 (SUBCKT)
pins on every part: 4 GND (power), 8 VS (power)
part A pins: 1 AOUT (out), 2 AIN- (in), 3 AIN+ (in)
part B pins: 5 BIN+ (in), 6 BIN- (in), 7 BOUT (out)

## LM432MAX
designator U?
Dual Op Amp with On-Chip Fixed 2.5V Reference, 8-pin Narrow SOIC; PartNumber: LM432MAX; Manufacturer: National Semiconductor; PackageTopMarking: NSZXTT*LM432*MA; PowerWise: Y; CompType: Amplifiers; Published: 1-Mar-2010; DatasheetVersion: Jul-2001; PackageVersion: revM, May-2009; PackageReference: M08A; Publisher: Altium Limited; PackageDescription: SOIC Narrow, 4.9 x 3.9 x 1.45mm, 8 Lead, 1.27mm Pitch; RoHS: N; PinCount: 8; Code_JEDEC: MS-012-AA; Code_IPC: SOIC127P600-8; ComponentLink1Description: LM432 Datasheet; ComponentLink1URL: http://www.national.com/ds/LM/LM432.pdf; ComponentLink2Description: LM432 Web Page; ComponentLink2URL: http://www.national.com/pf/LM/LM432.html; ComponentLink3Description: M08A Package Page; ComponentLink3URL: http://www.national.com/packaging/folders/m08a.html
footprint M08A_N (SOIC, 8-Leads, Body 4.9x3.9mm, Pitch 1.27mm, IPC Medium Density)
footprint M08A_L (SOIC, 8-Leads, Body 4.9x3.9mm, Pitch 1.27mm, IPC High Density)
footprint M08A_M (SOIC, 8-Leads, Body 4.9x3.9mm, Pitch 1.27mm, IPC Low Density)
simulation model LM358 (SUBCKT)
pins on every part: 4 GND (power), 8 VS (power)
part A pins: 1 AOUT (out), 2 AIN- (in), 3 AIN+ (in)
part B pins: 5 BIN+ (in), 6 BIN- (in), 7 BOUT (out)

## LM611CM
designator U?
Operational Amplifier and Adjustable Reference, 14-pin Narrow SOIC; PartNumber: LM611CM; Manufacturer: National Semiconductor; PackageTopMarking: NSUZXYTTE#*LM611CM; PowerWise: N; CompType: Amplifiers; Published: 4-Dec-2008; LatestRevisionDate: 13-Jan-2009; LatestRevisionNote: Sim Model Added.; DatasheetVersion: Aug-2000; PackageVersion: revJ, Jan-1996; PackageReference: M14A; Publisher: Altium Limited; PackageDescription: Molded Package S.O., .150in Wide, 14 Lead; RoHS: N; PinCount: 14; Code_JEDEC: MS-012AB; Code_IPC: SOIC127P600-14; ComponentLink1Description: LM611 Datasheet; ComponentLink1URL: http://www.national.com/ds/LM/LM611.pdf; ComponentLink2Description: LM611 Web Page; ComponentLink2URL: http://www.national.com/pf/LM/LM611.html; ComponentLink3Description: M14A Package Page; ComponentLink3URL: http://www.national.com/packaging/folders/m14a.html
footprint M14A_N (SOIC, 14-Leads, Body 8.6x3.9mm, Pitch 1.27mm, IPC Medium Density)
footprint M14A_L (SOIC, 14-Leads, Body 8.6x3.9mm, Pitch 1.27mm, IPC High Density)
footprint M14A_M (SOIC, 14-Leads, Body 8.6x3.9mm, Pitch 1.27mm, IPC Low Density)
simulation model LM324 (SUBCKT)
part A pins: 3 A, 4 FB, 5 C, 7 V- (power), 9 IN+ (in), 10 IN- (in), 11 OUT (out), 14 V+ (power)
part B pins: 1 NC, 2 NC, 6 NC, 8 NC, 12 NC, 13 NC

## LM611CMX
designator U?
Operational Amplifier and Adjustable Reference, 14-pin Narrow SOIC; PartNumber: LM611CMX; Manufacturer: National Semiconductor; PackageTopMarking: NSUZXYTTE#*LM611CM; PowerWise: N; CompType: Amplifiers; Published: 1-Mar-2010; DatasheetVersion: Aug-2000; PackageVersion: revJ, Jan-1996; PackageReference: M14A; Publisher: Altium Limited; PackageDescription: Molded Package S.O., .150in Wide, 14 Lead; RoHS: N; PinCount: 14; Code_JEDEC: MS-012AB; Code_IPC: SOIC127P600-14; ComponentLink1Description: LM611 Datasheet; ComponentLink1URL: http://www.national.com/ds/LM/LM611.pdf; ComponentLink2Description: LM611 Web Page; ComponentLink2URL: http://www.national.com/pf/LM/LM611.html; ComponentLink3Description: M14A Package Page; ComponentLink3URL: http://www.national.com/packaging/folders/m14a.html
footprint M14A_N (SOIC, 14-Leads, Body 8.6x3.9mm, Pitch 1.27mm, IPC Medium Density)
footprint M14A_L (SOIC, 14-Leads, Body 8.6x3.9mm, Pitch 1.27mm, IPC High Density)
footprint M14A_M (SOIC, 14-Leads, Body 8.6x3.9mm, Pitch 1.27mm, IPC Low Density)
simulation model LM324 (SUBCKT)
part A pins: 3 A, 4 FB, 5 C, 7 V- (power), 9 IN+ (in), 10 IN- (in), 11 OUT (out), 14 V+ (power)
part B pins: 1 NC, 2 NC, 6 NC, 8 NC, 12 NC, 13 NC

## LM611IM
designator U?
Operational Amplifier and Adjustable Reference, 14-pin Narrow SOIC; PartNumber: LM611IM; Manufacturer: National Semiconductor; PackageTopMarking: NSUZXYTTE#*LM611IM; PowerWise: N; CompType: Amplifiers; Published: 4-Dec-2008; LatestRevisionDate: 13-Jan-2009; LatestRevisionNote: Sim Model Added.; DatasheetVersion: Aug-2000; PackageVersion: revJ, Jan-1996; PackageReference: M14A; Publisher: Altium Limited; PackageDescription: Molded Package S.O., .150in Wide, 14 Lead; RoHS: N; PinCount: 14; Code_JEDEC: MS-012AB; Code_IPC: SOIC127P600-14; ComponentLink1Description: LM611 Datasheet; ComponentLink1URL: http://www.national.com/ds/LM/LM611.pdf; ComponentLink2Description: LM611 Web Page; ComponentLink2URL: http://www.national.com/pf/LM/LM611.html; ComponentLink3Description: M14A Package Page; ComponentLink3URL: http://www.national.com/packaging/folders/m14a.html
footprint M14A_N (SOIC, 14-Leads, Body 8.6x3.9mm, Pitch 1.27mm, IPC Medium Density)
footprint M14A_L (SOIC, 14-Leads, Body 8.6x3.9mm, Pitch 1.27mm, IPC High Density)
footprint M14A_M (SOIC, 14-Leads, Body 8.6x3.9mm, Pitch 1.27mm, IPC Low Density)
simulation model LM324 (SUBCKT)
part A pins: 3 A, 4 FB, 5 C, 7 V- (power), 9 IN+ (in), 10 IN- (in), 11 OUT (out), 14 V+ (power)
part B pins: 1 NC, 2 NC, 6 NC, 8 NC, 12 NC, 13 NC

## LM611IM/NOPB
designator U?
Operational Amplifier and Adjustable Reference, 14-pin Narrow SOIC, Pb-Free; PartNumber: LM611IM/NOPB; Manufacturer: National Semiconductor; PackageTopMarking: NSUZXYTTE#*LM611IM; PowerWise: N; CompType: Amplifiers; Published: 1-Mar-2010; DatasheetVersion: Aug-2000; PackageVersion: revJ, Jan-1996; PackageReference: M14A; Publisher: Altium Limited; PackageDescription: Molded Package S.O., .150in Wide, 14 Lead; Supplier 1: Digi-Key; Supplier Part Number 1: LM611IM-ND; Supplier 2: Farnell; Supplier Part Number 2: 1685317; RoHS: Y; PinCount: 14; Code_JEDEC: MS-012AB; Code_IPC: SOIC127P600-14; ComponentLink1Description: LM611 Datasheet; ComponentLink1URL: http://www.national.com/ds/LM/LM611.pdf; ComponentLink2Description: LM611 Web Page; ComponentLink2URL: http://www.national.com/pf/LM/LM611.html; ComponentLink3Description: M14A Package Page; ComponentLink3URL: http://www.national.com/packaging/folders/m14a.html
footprint M14A_N (SOIC, 14-Leads, Body 8.6x3.9mm, Pitch 1.27mm, IPC Medium Density)
footprint M14A_L (SOIC, 14-Leads, Body 8.6x3.9mm, Pitch 1.27mm, IPC High Density)
footprint M14A_M (SOIC, 14-Leads, Body 8.6x3.9mm, Pitch 1.27mm, IPC Low Density)
simulation model LM324 (SUBCKT)
part A pins: 3 A, 4 FB, 5 C, 7 V- (power), 9 IN+ (in), 10 IN- (in), 11 OUT (out), 14 V+ (power)
part B pins: 1 NC, 2 NC, 6 NC, 8 NC, 12 NC, 13 NC

## LM611IMX
designator U?
Operational Amplifier and Adjustable Reference, 14-pin Narrow SOIC; PartNumber: LM611IMX; Manufacturer: National Semiconductor; PackageTopMarking: NSUZXYTTE#*LM611IM; PowerWise: N; CompType: Amplifiers; Published: 1-Mar-2010; DatasheetVersion: Aug-2000; PackageVersion: revJ, Jan-1996; PackageReference: M14A; Publisher: Altium Limited; PackageDescription: Molded Package S.O., .150in Wide, 14 Lead; RoHS: N; PinCount: 14; Code_JEDEC: MS-012AB; Code_IPC: SOIC127P600-14; ComponentLink1Description: LM611 Datasheet; ComponentLink1URL: http://www.national.com/ds/LM/LM611.pdf; ComponentLink2Description: LM611 Web Page; ComponentLink2URL: http://www.national.com/pf/LM/LM611.html; ComponentLink3Description: M14A Package Page; ComponentLink3URL: http://www.national.com/packaging/folders/m14a.html
footprint M14A_N (SOIC, 14-Leads, Body 8.6x3.9mm, Pitch 1.27mm, IPC Medium Density)
footprint M14A_L (SOIC, 14-Leads, Body 8.6x3.9mm, Pitch 1.27mm, IPC High Density)
footprint M14A_M (SOIC, 14-Leads, Body 8.6x3.9mm, Pitch 1.27mm, IPC Low Density)
simulation model LM324 (SUBCKT)
part A pins: 3 A, 4 FB, 5 C, 7 V- (power), 9 IN+ (in), 10 IN- (in), 11 OUT (out), 14 V+ (power)
part B pins: 1 NC, 2 NC, 6 NC, 8 NC, 12 NC, 13 NC

## LM613IWM
designator U?
Dual Operational Amplifier, Dual Comparator and Adjustable Reference, 16-pin Wide SOIC; PartNumber: LM613IWM; Manufacturer: National Semiconductor; PackageTopMarking: NSUZXYTTE#*LM613IWM; PowerWise: N; CompType: Amplifiers; Published: 4-Dec-2008; LatestRevisionDate: 13-Jan-2009; LatestRevisionNote: Sim Model Added.; DatasheetVersion: Aug-2000; PackageVersion: revF, Apr-1990; PackageReference: M16B; Publisher: Altium Limited; PackageDescription: Molded Package, S.O., .300in Wide, 16 Lead; Supplier 1: Farnell; Supplier Part Number 1: 954056; RoHS: N; PinCount: 16; Code_JEDEC: MS-013-AA; Code_IPC: SOIC127P1030-16; ComponentLink1Description: LM613 Datasheet; ComponentLink1URL: http://www.national.com/ds/LM/LM613.pdf; ComponentLink2Description: LM613 Web Page; ComponentLink2URL: http://www.national.com/pf/LM/LM613.html; ComponentLink3Description: M16B Package Page; ComponentLink3URL: http://www.national.com/packaging/folders/m16b.html
footprint M16B_N (SOIC, 16-Leads, Body 10.3x7.5mm, Pitch 1.27mm, IPC Medium Density)
footprint M16B_L (SOIC, 16-Leads, Body 10.3x7.5mm, Pitch 1.27mm, IPC High Density)
footprint M16B_M (SOIC, 16-Leads, Body 10.3x7.5mm, Pitch 1.27mm, IPC Low Density)
simulation model LM324 (SUBCKT)
pins on every part: 4 V+ (power), 13 V- (power)
part A pins: 1 OUT1 (out), 2 IN1- (in), 3 IN1+ (in)
part B pins: 5 IN2+ (in), 6 IN2- (in), 7 OUT2 (out)
part C pins: 10 OUT3 (out), 11 IN3- (in), 12 IN3+ (in)
part D pins: 14 IN4+ (in), 15 IN4- (in), 16 OUT4 (out)
part E pins: 8 FB, 9 C

## LM614CWM
designator U?
Quad Operational Amplifier and Adjustable Reference, 16-pin Wide SOIC; PartNumber: LM614CWM; Manufacturer: National Semiconductor; PackageTopMarking: NSUZXYTTE#*LM614CWM; PowerWise: N; CompType: Amplifiers; Published: 4-Dec-2008; DatasheetVersion: Dec-2001; PackageVersion: revF, Apr-1990; PackageReference: M16B; Publisher: Altium Limited; PackageDescription: Molded Package, S.O., .300in Wide, 16 Lead; RoHS: N; PinCount: 16; Code_JEDEC: MS-013-AA; Code_IPC: SOIC127P1030-16; ComponentLink1Description: LM614 Datasheet; ComponentLink1URL: http://www.national.com/ds/LM/LM614.pdf; ComponentLink2Description: LM614 Web Page; ComponentLink2URL: http://www.national.com/pf/LM/LM614.html; ComponentLink3Description: M16B Package Page; ComponentLink3URL: http://www.national.com/packaging/folders/m16b.html
footprint M16B_N (SOIC, 16-Leads, Body 10.3x7.5mm, Pitch 1.27mm, IPC Medium Density)
footprint M16B_L (SOIC, 16-Leads, Body 10.3x7.5mm, Pitch 1.27mm, IPC High Density)
footprint M16B_M (SOIC, 16-Leads, Body 10.3x7.5mm, Pitch 1.27mm, IPC Low Density)
pins on every part: 4 V+ (power), 13 V- (power)
part A pins: 1 OUT1 (out), 2 IN1- (in), 3 IN1+ (in)
part B pins: 5 IN2+ (in), 6 IN2- (in), 7 OUT2 (out)
part C pins: 10 OUT3 (out), 11 IN3- (in), 12 IN3+ (in)
part D pins: 14 IN4+ (in), 15 IN4- (in), 16 OUT4 (out)
part E pins: 8 FB, 9 C

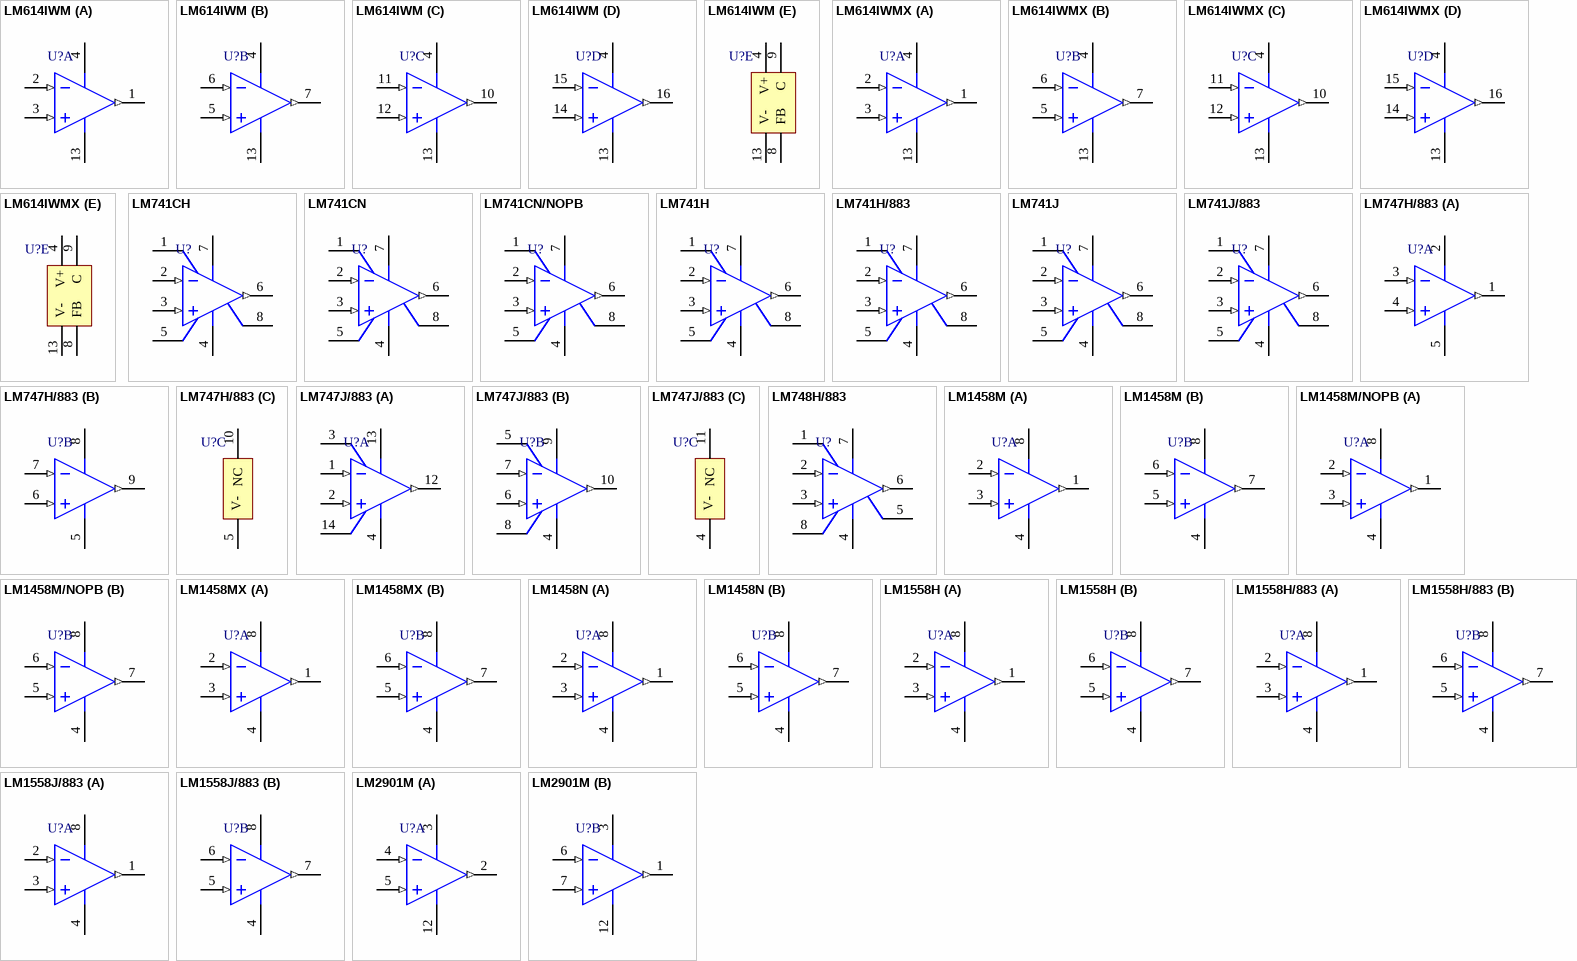
[diagram p15: symbols LM614IWM to LM2901M]

## LM614IWM
designator U?
Quad Operational Amplifier and Adjustable Reference, 16-pin Wide SOIC; PartNumber: LM614IWM; Manufacturer: National Semiconductor; PackageTopMarking: NSUZXYTTE#*LM614IWM; PowerWise: N; CompType: Amplifiers; Published: 4-Dec-2008; LatestRevisionDate: 13-Jan-2009; LatestRevisionNote: Sim Model Added.; DatasheetVersion: Dec-2001; PackageVersion: revF, Apr-1990; PackageReference: M16B; Publisher: Altium Limited; PackageDescription: Molded Package, S.O., .300in Wide, 16 Lead; RoHS: N; PinCount: 16; Code_JEDEC: MS-013-AA; Code_IPC: SOIC127P1030-16; ComponentLink1Description: LM614 Datasheet; ComponentLink1URL: http://www.national.com/ds/LM/LM614.pdf; ComponentLink2Description: LM614 Web Page; ComponentLink2URL: http://www.national.com/pf/LM/LM614.html; ComponentLink3Description: M16B Package Page; ComponentLink3URL: http://www.national.com/packaging/folders/m16b.html
footprint M16B_N (SOIC, 16-Leads, Body 10.3x7.5mm, Pitch 1.27mm, IPC Medium Density)
footprint M16B_L (SOIC, 16-Leads, Body 10.3x7.5mm, Pitch 1.27mm, IPC High Density)
footprint M16B_M (SOIC, 16-Leads, Body 10.3x7.5mm, Pitch 1.27mm, IPC Low Density)
simulation model LM324 (SUBCKT)
pins on every part: 4 V+ (power), 13 V- (power)
part A pins: 1 OUT1 (out), 2 IN1- (in), 3 IN1+ (in)
part B pins: 5 IN2+ (in), 6 IN2- (in), 7 OUT2 (out)
part C pins: 10 OUT3 (out), 11 IN3- (in), 12 IN3+ (in)
part D pins: 14 IN4+ (in), 15 IN4- (in), 16 OUT4 (out)
part E pins: 8 FB, 9 C